# Altium schematic symbol library CL31B225KCHSNNE.SchLib: 1 symbol
Pins are listed as number, name and electrical type; pins without a type are passive.

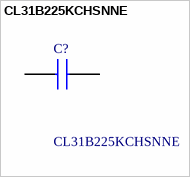
[diagram p0: symbol CL31B225KCHSNNE]

## CL31B225KCHSNNE
designator C?
SAMSUNG ELECTRO-MECHANICS - CL31B225KCHSNNE - SMD Multilayer Ceramic Capacitor, 2.2 F, 100 V, 1206 [3216 Metric], +/- 10%, X7R, CL Series; Geometry.Height: 1.8mm; Mouser Part Number: 187-CL31B225KCHSNNE; Mouser Price/Stock: https://www.mouser.co.uk/ProductDetail/Samsung-Electro-Mechanics/CL31B225KCHSNNE?qs=EqekMjxHB%2FO4jGlN37Y2aA%3D%3D; Manufacturer_Name: SAMSUNG; Manufacturer_Part_Number: CL31B225KCHSNNE; Datasheet Link: https://ms.componentsearchengine.com/Datasheets/2/CL31B225KCHSNNE.pdf
footprint CAPC3216X180N
pins: 1, 2